# Altium footprint library passives.PcbLib: 14 footprints
Each footprint in its own frame and in the unit in brackets; x right, y up, seen from the top. Pads: shape width x height; smd on the part's side, far side on the other; paste and mask are expansions set on the pad; w line width, h text height; cw(c..) or ccw(c..) is an arc to the next point about the centre after c.
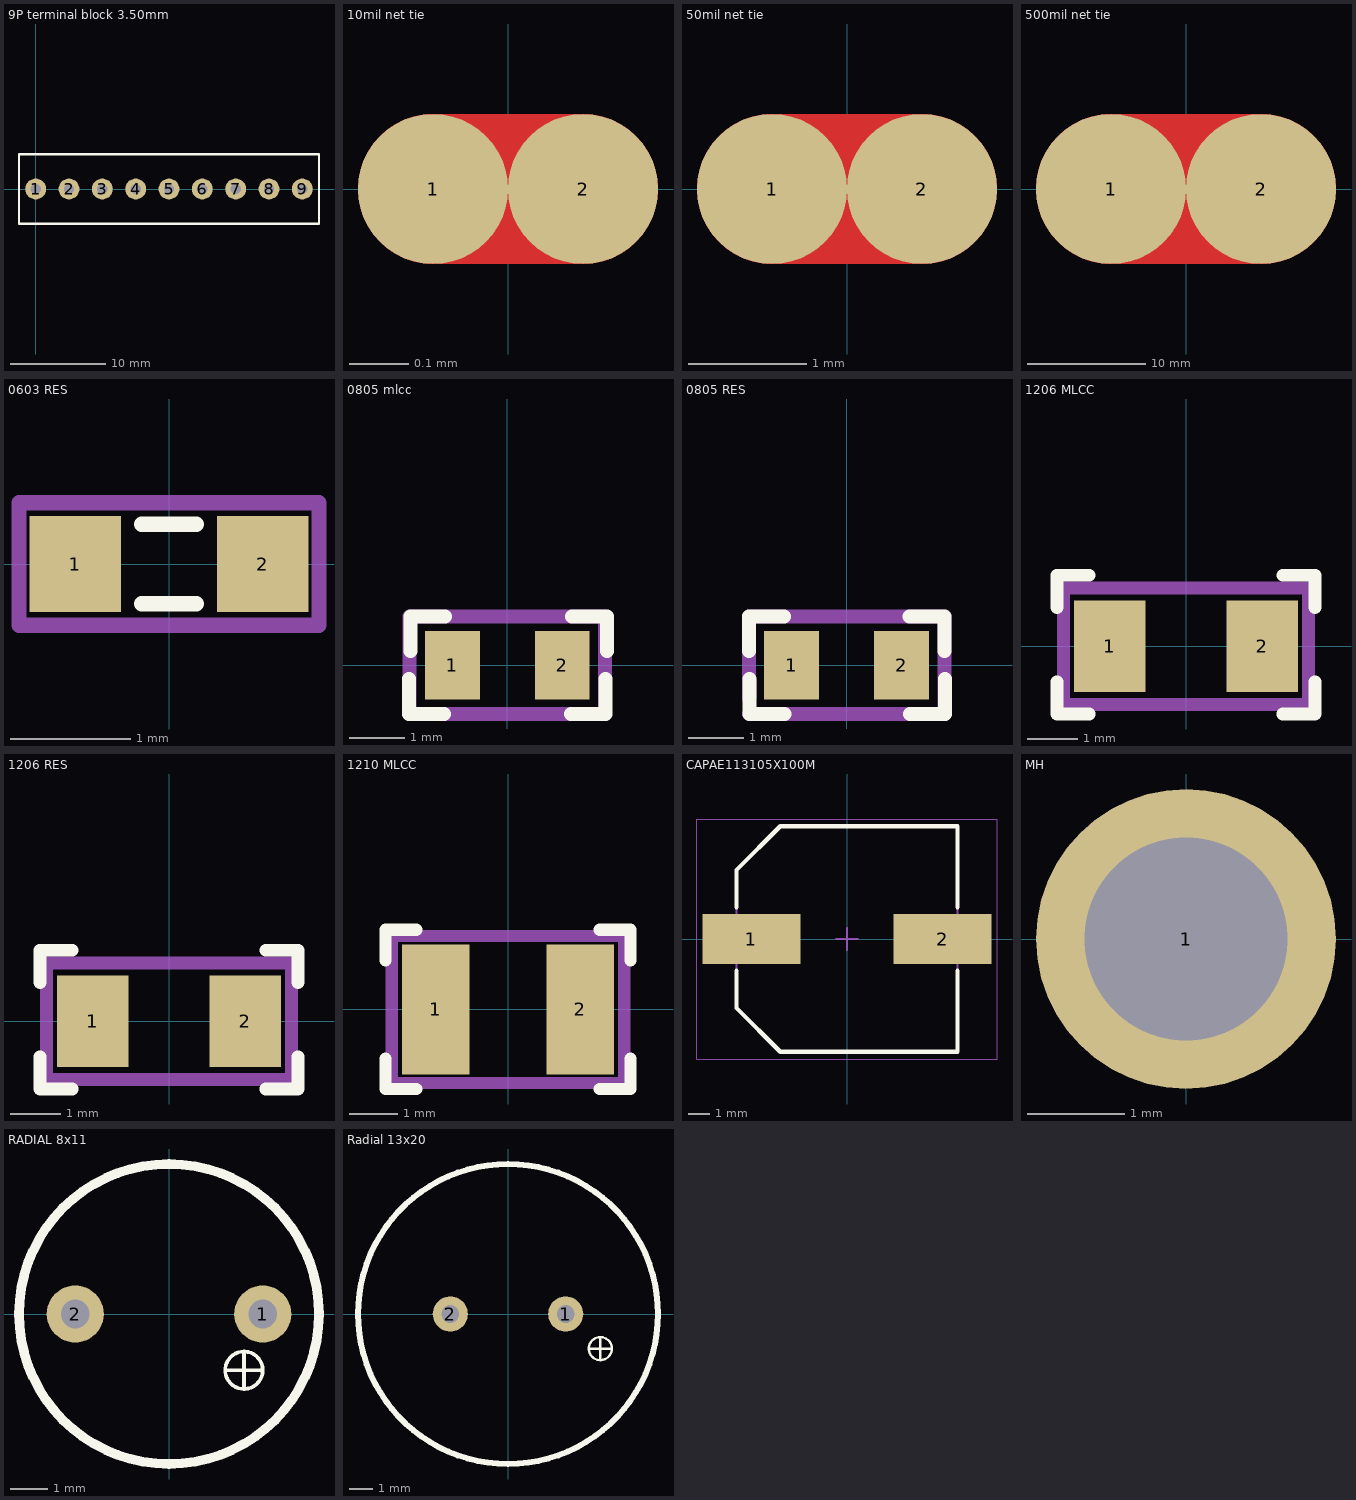
[diagram p0: the footprints below, top view; thin cyan lines are the x and y axes]

## 9P terminal block 3.50mm [mm] "Stelvio 9P terminal block"
pads (9):
  round 2.2 hole 1.1: 1(0,0) 2(3.5,0) 3(7,0) 4(10.5,0) 5(14,0) 6(17.5,0) 7(21,0) 8(24.5,0) 9(28,0)
Top Overlay:
  lines w0.254: -1.75,-3.65 29.75,-3.65 29.75,3.65 -1.75,3.65 -1.75,-3.65
3D body "KF350-9P.STEP": height 8.8, standoff -2.6, extent -1.75,-3.438 29.75,3.462

## 10mil net tie [mil]
pads (2):
  round 10 smd mask+0: 1(-5,0) 2(5,0)
Top Layer:
  lines w10: -5,0 5,0

## 50mil net tie [mm]
pads (2):
  round 1.27 smd mask+0: 1(-0.635,0) 2(0.635,0)
Top Layer:
  lines w1.27: -0.635,0 0.635,0

## 500mil net tie [mm] "Net Tie 500"
pads (2):
  round 12.7 smd mask+0: 1(-6.35,0) 2(6.35,0)
Top Layer:
  lines w12.7: -6.35,0 6.35,0

## 0603 RES [mm] "0603"
pads (2):
  rect 0.756x0.8 smd paste+0 mask+0.076: 1(-0.778,0) 2(0.778,0)
Top Overlay:
  lines w0.127: -0.229,-0.33 0.229,-0.33 ; -0.229,0.33 0.229,0.33
Assembly Notes:
  lines w0.127: -1.245,-0.508 -1.245,0.508 1.245,0.508 1.245,-0.508 -1.245,-0.508
  text "'.Designator'" at -1.041,-1.295 h0.5
3D body "RC0603N_PAN.step": height 0.71, standoff 0, extent -0.8,-0.4 0.8,0.4

## 0805 mlcc [mm] "0805"
pads (2):
  rect 1x1.25 smd: 1(-1,0) 2(1,0)
Top Overlay:
  lines w0.254: -1.791,-0.254 -1.791,-0.889 -1.156,-0.889 ; -1.765,0.254 -1.765,0.889 -1.13,0.889 ; 1.156,-0.889 1.791,-0.889 1.791,-0.254 ; 1.181,0.889 1.816,0.889 1.816,0.254
Assembly Notes:
  lines w0.254: -1.778,-0.889 -1.778,-0.603 -1.778,0.476 -1.778,0.889 1.778,0.889 1.778,-0.889 1.206,-0.889 -1.206,-0.889 -1.778,-0.889
  text "'.Designator'" at -2.032,-3.556 h1.52
3D body "User Library-Chip Cap_MLCC_0805 (2012)_A.STEP": height 0.6, standoff 0, extent -1,-0.615 1,0.635

## 0805 RES [mm] "0805"
pads (2):
  rect 1x1.25 smd: 1(-1,0) 2(1,0)
Top Overlay:
  lines w0.254: -1.778,0.254 -1.778,0.889 -1.143,0.889 ; -1.765,-0.254 -1.765,-0.889 -1.13,-0.889 ; 1.143,0.889 1.778,0.889 1.778,0.254 ; 1.156,-0.889 1.791,-0.889 1.791,-0.254
Assembly Notes:
  lines w0.254: -1.778,-0.889 -1.206,-0.889 1.206,-0.889 1.778,-0.889 1.778,0.889 -1.778,0.889 -1.778,0.476 -1.778,-0.603 ; -1.765,-0.572 -1.765,-0.286
  text "'.Designator'" at -1.651,-3.81 h1.52
3D body "User Library-RES_2013-0805.STEP": height 0.76, standoff 0, extent -1.15,-0.675 1.15,0.675

## 1206 MLCC [mm] "1206"
pads (2):
  rect 1.4x1.8 smd: 1(-1.5,0) 2(1.5,0)
Top Overlay:
  lines w0.254: -2.54,-0.699 -2.54,-1.333 -1.905,-1.333 ; -2.54,0.762 -2.54,1.397 -1.905,1.397 ; 1.905,-1.333 2.54,-1.333 2.54,-0.699 ; 1.905,1.397 2.54,1.397 2.54,0.762
Assembly Notes:
  lines w0.254: -2.413,-1.143 -2.413,1.143 2.413,1.143 2.413,-1.143 1.206,-1.143 -1.206,-1.143 -2.413,-1.143
  text "'.Designator'" at -2.286,-3.556 h1.52
3D body "User Library-Chip Cap_MLCC_1206 (3216)_J.STEP": height 1.15, standoff 0, extent -1.6,-0.787 1.6,0.813

## 1206 RES [mm] "1206"
pads (2):
  rect 1.4x1.8 smd: 1(-1.5,0) 2(1.5,0)
Top Overlay:
  lines w0.254: -2.54,-0.699 -2.54,-1.333 -1.905,-1.333 ; -2.54,0.762 -2.54,1.397 -1.905,1.397 ; 1.905,-1.333 2.54,-1.333 2.54,-0.699 ; 1.905,1.397 2.54,1.397 2.54,0.762
Assembly Notes:
  lines w0.254: -2.413,-1.143 -1.206,-1.143 1.206,-1.143 2.413,-1.143 2.413,1.143 -2.413,1.143 -2.413,-1.143
  text "'.Designator'" at -2.286,-3.556 h1.52
3D body "User Library-res1206.STEP": height 0.63, standoff 0, extent -2.094,-0.894 2.106,0.906

## 1210 MLCC [mm] "1210"
pads (2):
  rect 1.4x2.7 smd: 1(-1.5,0) 2(1.5,0)
Top Overlay:
  lines w0.254: -2.54,-1.016 -2.54,-1.651 -1.905,-1.651 ; -2.54,1.016 -2.54,1.651 -1.905,1.651 ; 1.905,-1.651 2.54,-1.651 2.54,-1.016 ; 1.905,1.651 2.54,1.651 2.54,1.016
Assembly Notes:
  lines w0.254: -2.413,-1.524 -2.413,1.524 2.413,1.524 2.413,-1.524 -2.413,-1.524
  text "'.Designator'" at -2.286,-3.81 h1.52
3D body "User Library-Chip Cap_MLCC_1210 (3225)_C.STEP": height 0.95, standoff 0, extent -1.6,-1.23 1.6,1.27

## CAPAE113105X100M [mm] "Aluminum Electrolytic Capacitor, Body 10.30x10.50x10.00mm, IPC Low Density"
height 10
pads (2):
  rect 4.55x2.35 smd: 1(-4.45,0) 2(4.45,0)
Top Overlay:
  lines w0.2: -5.15,-1.475 -5.15,-3.213 -3.113,-5.25 5.15,-5.25 5.15,-1.475 ; -5.15,1.475 -5.15,3.212 -3.113,5.25 5.15,5.25 5.15,1.475
Top Assembly:
  lines w0.1: -5.15,-3.213 -3.113,-5.25 5.15,-5.25 5.15,5.25 -3.113,5.25 -5.15,3.212 -5.15,-3.213
Mechanical 7:
  lines w0.05: -6.985,-5.588 6.985,-5.588 6.985,5.588 -6.985,5.588 -6.985,-5.588
  lines w0.1: -0.5,0 0.5,0 ; 0,-0.5 0,0.5
3D body "Alu_Cap_10x10.step": height 10.2, standoff 0, extent -5.927,-5.15 5.673,5.15

## MH [mm] "M2 mounting hole"
pads (1):
  round 3.1 hole 2.1: 1(0,0)

## RADIAL 8x11 [mil] "TEAPO RADIAL 8x11"
height 433.07
pads (2):
  round 60 hole 30: 1(98.43,0) 2(-98.43,0)
Top Overlay:
  circle w10: c0,0 r157.48
  circle w3.94: c78.74,-59.06 r19.68
  lines w3.94: 59.06,-59.06 98.43,-59.06 ; 78.74,-78.74 78.74,-39.37
3D body "Cap-EL(8x11-3_5).STEP": height 433.15, standoff -129.92, extent -157.41,-157.47 157.41,157.57

## Radial 13x20 [mil] "TEAPO Radial 13x20"
pads (2):
  round 60 hole 30: 1(98.43,0) 2(-98.43,0)
Top Overlay:
  circle w10: c0,0 r255.91
  circle w3.94: c157.48,-59.06 r19.68
  lines w3.94: 137.8,-59.06 177.17,-59.06 ; 157.48,-78.74 157.48,-39.37
3D body "Cap electrolitic radial 13x20.STEP": height 818.9, standoff -27.56, extent -255.81,-255.88 255.82,255.86